# EAGLE library part TPS77301 (library v-reg)
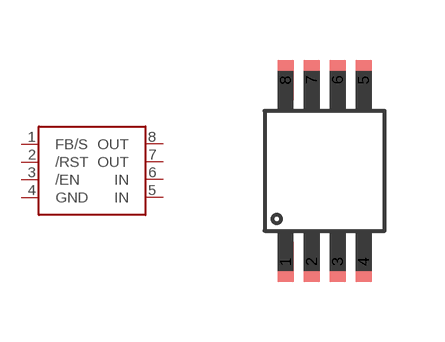
[diagram p0: symbol with the pads of MSO8; footprint MSO8]

Designator prefix IC

## TPS77301DGK  [MSO8]
1  FB/S
2  /RST
3  /EN
4  GND
5  IN
6  IN
7  OUT
8  OUT

## Footprint MSO8 (pad centres in mm)
smd 0.4 x 1: 1 -0.975,-2.275; 2 -0.325,-2.275; 3 0.325,-2.275; 4 0.975,-2.275; 5 0.975,2.275; 6 0.325,2.275; 7 -0.325,2.275; 8 -0.975,2.275